# EAGLE library part 4455-B11 (library con-molex-kk)
RECEPTACAL
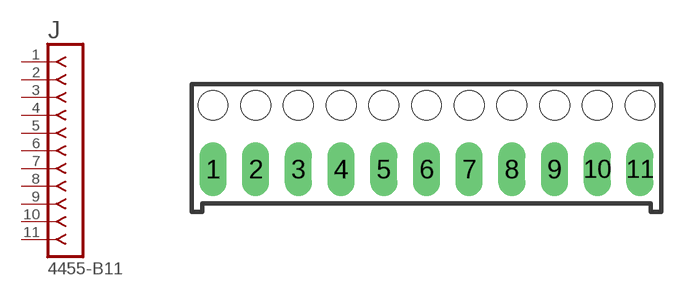
[diagram p86: symbol with the pads of 4455-B11; footprint 4455-B11]

Designator prefix J

## 4455-B11  [4455-B11]
1  1  pas
2  2  pas
3  3  pas
4  4  pas
5  5  pas
6  6  pas
7  7  pas
8  8  pas
9  9  pas
10  10  pas
11  11  pas

## Footprint 4455-B11 (pad centres in mm)
RECEPTACAL Vertical, Bottom Entry, 0.1" pitch
drill 1.067 long: 1 -12.7,0; 2 -10.16,0; 3 -7.62,0; 4 -5.08,0; 5 -2.54,0; 6 0,0; 7 2.54,0; 8 5.08,0; 9 7.62,0; 10 10.16,0; 11 12.7,0
hole 1.778 at -12.7,3.81
hole 1.778 at -10.16,3.81
hole 1.778 at -7.62,3.81
hole 1.778 at -5.08,3.81
hole 1.778 at -2.54,3.81
hole 1.778 at 0,3.81
hole 1.778 at 2.54,3.81
hole 1.778 at 5.08,3.81
hole 1.778 at 7.62,3.81
hole 1.778 at 10.16,3.81
hole 1.778 at 12.7,3.81